# EAGLE library part MURATA_EMI_FILTER_BMX01 (library 180118 Library by matsu)
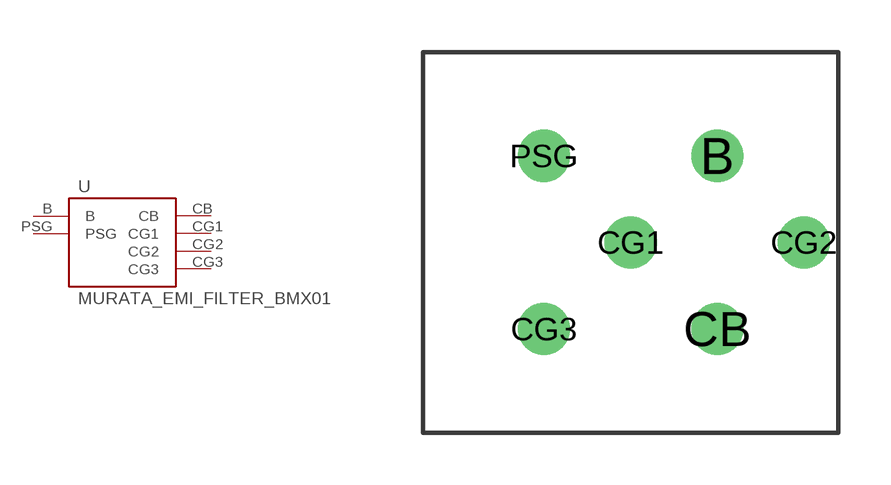
[diagram p34: symbol with the pads of MURATA_EMI_FILTER_BNX01; footprint MURATA_EMI_FILTER_BNX01]

Designator prefix -

## MURATA_EMI_FILTER_BMX01  [MURATA_EMI_FILTER_BNX01]
B  B
CB  CB
CG1  CG1
CG2  CG2
CG3  CG3
PSG  PSG

## Footprint MURATA_EMI_FILTER_BNX01 (pad centres in mm)
drill 1: B 2.5,2.5; CB 2.5,-2.5; CG1 0,0; CG2 5,0; CG3 -2.5,-2.5; PSG -2.5,2.5